# EAGLE library part HC-06 (library brickster)
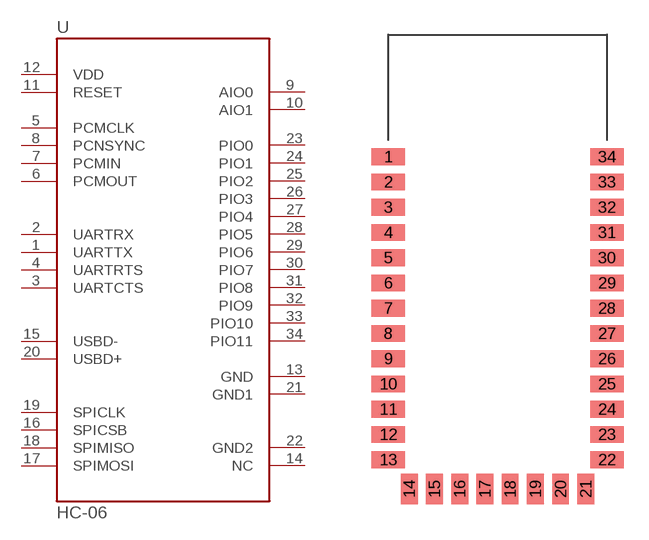
[diagram p5: symbol with the pads of BLUETOOTH_SMD; footprint BLUETOOTH_SMD]

Designator prefix U

## HC-06  [BLUETOOTH_SMD]
1  UARTTX
2  UARTRX
3  UARTCTS
4  UARTRTS
5  PCMCLK
6  PCMOUT
7  PCMIN
8  PCNSYNC
9  AIO0
10  AIO1
11  RESET
12  VDD
13  GND
14  NC
15  USBD-
16  SPICSB
17  SPIMOSI
18  SPIMISO
19  SPICLK
20  USBD+
21  GND1
22  GND2
23  PIO0
24  PIO1
25  PIO2
26  PIO3
27  PIO4
28  PIO5
29  PIO6
30  PIO7
31  PIO8
32  PIO9
33  PIO10
34  PIO11

## Footprint BLUETOOTH_SMD (pad centres in mm)
smd 2 x 1: 1 -6.35,5.08; 2 -6.35,3.58; 3 -6.35,2.08; 4 -6.35,0.58; 5 -6.35,-0.92; 6 -6.35,-2.42; 7 -6.35,-3.92; 8 -6.35,-5.42; 9 -6.35,-6.92; 10 -6.35,-8.42; 11 -6.35,-9.92; 12 -6.35,-11.42; 13 -6.35,-12.92; 22 6.65,-12.92; 23 6.65,-11.42; 24 6.65,-9.92; 25 6.65,-8.42; 26 6.65,-6.92; 27 6.65,-5.42; 28 6.65,-3.92; 29 6.65,-2.42; 30 6.65,-0.92; 31 6.65,0.58; 32 6.65,2.08; 33 6.65,3.58; 34 6.65,5.08
smd 1 x 1.8: 14 -5.1,-14.67; 15 -3.6,-14.67; 16 -2.1,-14.67; 17 -0.6,-14.67; 18 0.9,-14.67; 19 2.4,-14.67; 20 3.9,-14.67; 21 5.4,-14.67